# EAGLE library part TPS65131 (library ds_ic_vreg)
Positive- and Negative-Output DC-DC Converter
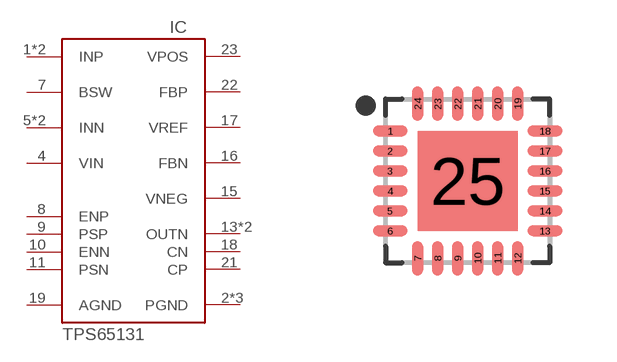
[diagram p21: symbol with the pads of VQFN24-4X4-THERMAL2.5X2.5; footprint VQFN24-4X4-THERMAL2.5X2.5]

Designator prefix IC

## TPS65131TRGERQ1  [VQFN24-4X4-THERMAL2.5X2.5]
1  INP  pwr
2  PGND  pwr
3  PGND  pwr
4  VIN  pwr
5  INN  pwr
6  INN  pwr
7  BSW  out
8  ENP  in
9  PSP  in
10  ENN  in
11  PSN  in
13  OUTN  pwr
14  OUTN  pwr
15  VNEG  pwr
16  FBN  in
17  VREF  in
18  CN  in
19  AGND  pwr
21  CP  in
22  FBP  in
23  VPOS  pwr
24  INP  pwr
25  PGND  pwr

## Footprint VQFN24-4X4-THERMAL2.5X2.5 (pad centres in mm)
24-QFN, 0.50 mm pitch, 4.00 X 4.00 X 1.00 mm body, 2.50 X 2.50 mm thermal pad 24-pin QFN package with 0.50 mm pitch with body size 4.00 X 4.00 X 1.00 mm and thermal pad size 2.50 X 2.50 mm
smd 0.86 x 0.27: 1 -1.935,1.25; 2 -1.935,0.75; 3 -1.935,0.25; 4 -1.935,-0.25; 5 -1.935,-0.75; 6 -1.935,-1.25; 13 1.935,-1.25; 14 1.935,-0.75; 15 1.935,-0.25; 16 1.935,0.25; 17 1.935,0.75; 18 1.935,1.25
smd 0.27 x 0.86: 7 -1.25,-1.935; 8 -0.75,-1.935; 9 -0.25,-1.935; 10 0.25,-1.935; 11 0.75,-1.935; 12 1.25,-1.935; 19 1.25,1.935; 20 0.75,1.935; 21 0.25,1.935; 22 -0.25,1.935; 23 -0.75,1.935; 24 -1.25,1.935
smd 2.5 x 2.5: 25 0,0